# Altium footprint library POWER_56.PcbLib: 1 footprints
Each footprint in its own frame and in the unit in brackets; x right, y up, seen from the top. Pads: shape width x height; smd on the part's side, far side on the other; paste and mask are expansions set on the pad; w line width, h text height; cw(c..) or ccw(c..) is an arc to the next point about the centre after c.
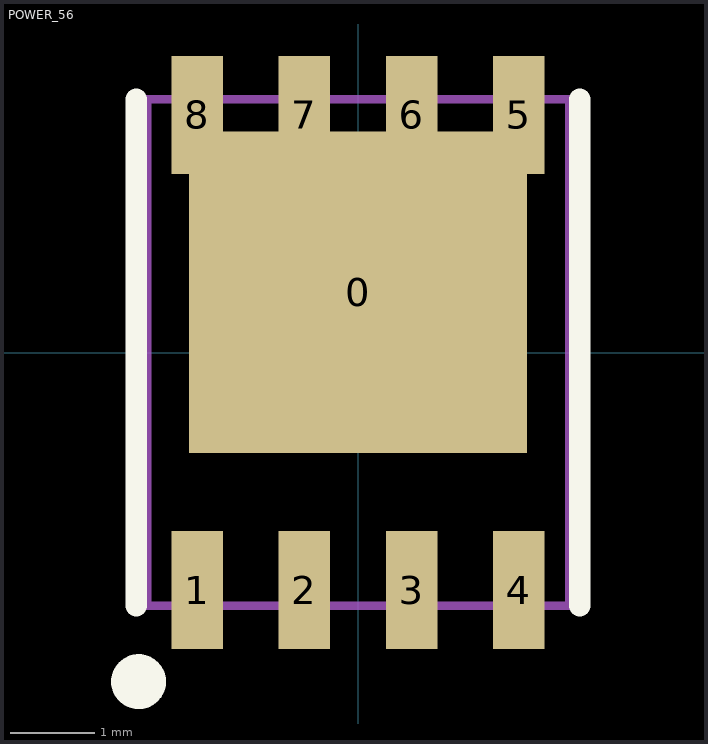
[diagram p0: the footprint, top view; thin cyan lines are the x and y axes]

## POWER_56 [mm]
pads (9):
  rect 4x3.81 smd: 0(0,0.716)
  rect 0.61x1.4 smd: 1(-1.905,-2.816) 2(-0.635,-2.816) 3(0.635,-2.816) 4(1.905,-2.816) 5(1.905,2.816) 6(0.635,2.816) 7(-0.635,2.816) 8(-1.905,2.816)
Top Overlay:
  circle w0.4: c-2.6,-3.9 r0.125
  lines w0.254: -2.63,-3 -2.63,3 ; 2.63,-3 2.63,3
Mechanical 13:
  lines w0.1: -2.5,-3 2.5,-3 2.5,3 -2.5,3 -2.5,-3